# Altium footprint library Flanery.PcbLib: 125 footprints (part 8 of 8)
Each footprint in its own frame and in the unit in brackets; x right, y up, seen from the top. Pads: shape width x height; smd on the part's side, far side on the other; paste and mask are expansions set on the pad; w line width, h text height; cw(c..) or ccw(c..) is an arc to the next point about the centre after c.
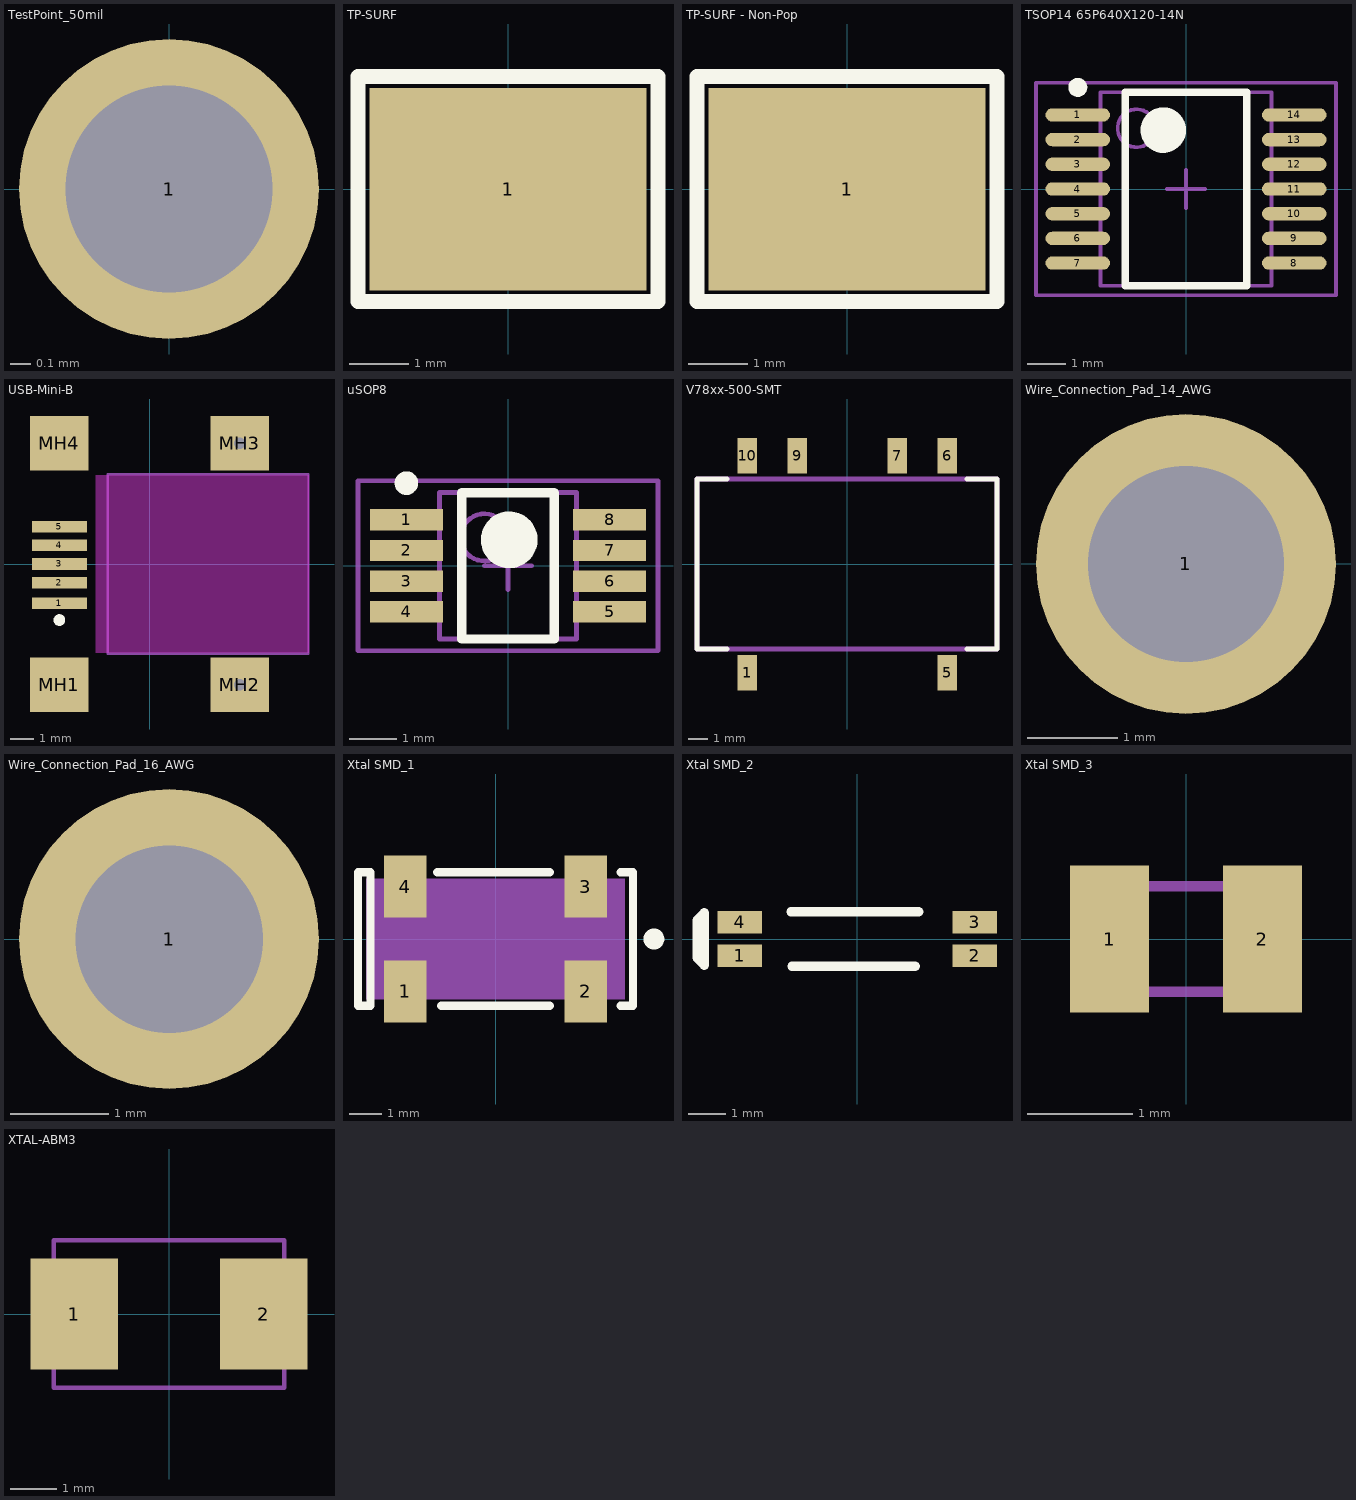
[diagram p7: the footprints below, top view; thin cyan lines are the x and y axes]

## TestPoint_50mil [mil] "Single 40-mil hole for standard 25mil-square header pins"
pads (1):
  round 58 hole 40: 1(0,0)

## TP-SURF [mil]
pads (1):
  rect 185x135 smd: 1(0,0)
Top Overlay:
  lines w10: -100,-75 100,-75 100,75 -100,75 -100,-75

## TP-SURF - Non-Pop [mil] "Not populated (no solder paste)"
pads (1):
  rect 185x135 smd paste-196.85: 1(0,0)
Top Overlay:
  lines w10: -100,-75 100,-75 100,75 -100,75 -100,-75

## TSOP14 65P640X120-14N [mm] "TSOP, 14-Leads, Body 5.1x4.5mm (max), Pitch 0.65mm, IPC Medium Density"
height 1.2
pads (14):
  oval 1.7x0.35 smd: 1(-2.85,1.95) 2(-2.85,1.3) 3(-2.85,0.65) 4(-2.85,0) 5(-2.85,-0.65) 6(-2.85,-1.3) 7(-2.85,-1.95) 8(2.85,-1.95) 9(2.85,-1.3) 10(2.85,-0.65) 11(2.85,0) 12(2.85,0.65) 13(2.85,1.3) 14(2.85,1.95)
Top Overlay:
  circle w0.6: c-0.6,1.55 r0.3
  circle w0.25: c-2.85,2.675 r0.125
  lines w0.2: -1.6,-2.55 1.6,-2.55 1.6,2.55 -1.6,2.55 -1.6,-2.55
Mechanical 13:
  circle w0.1: c-1.3,1.6 r0.5
  lines w0.1: -2.25,-2.55 2.25,-2.55 2.25,2.55 -2.25,2.55 -2.25,-2.55
Mechanical 15:
  lines w0.1: -0.5,0 0.5,0 ; 0,-0.5 0,0.5 ; -3.95,-2.8 3.95,-2.8 3.95,2.8 -3.95,2.8 -3.95,-2.8
3D body: height 1.2, standoff 0.1, extent -2.25,-2.55 2.25,2.55

## USB-Mini-B [mm] "Connector; USB Mini-B, Sinking Type, SM; 5 Position; Right Angle"
height 0.35
pads (9):
  rect 2.35x0.5 smd: 1(-3.861,-1.676) 2(-3.861,-0.8) 3(-3.861,0) 4(-3.861,0.8) 5(-3.861,1.6)
  rect 2.5x2.35 smd: MH1(-3.861,-5.175) MH2(3.863,-5.175) MH3(3.863,5.175) MH4(-3.861,5.175)
via 3.862,5.175 diameter 0.762 hole 0.508
via 3.862,-5.175 diameter 0.762 hole 0.508
Top Layer keep-out:
  rectangle: -2.311,-3.81 6.825,3.81
Top Overlay:
  circle w0.25: c-3.861,-2.4 r0.125
Top Solder:
  rectangle: -5.156,-2.032 -2.565,1.956
Mechanical 13:
  lines w0.1: -1.788,-3.85 6.813,-3.85 6.813,3.85 -1.788,3.85 -1.788,-3.85
3D body: height 3.95, standoff 0, extent -1.798,-3.838 6.801,3.861

## uSOP8 [mm] "Maxim"
height 1.1
pads (8):
  rect 1.55x0.45 smd: 1(-2.15,0.975) 2(-2.15,0.325) 3(-2.15,-0.325) 4(-2.15,-0.975) 5(2.15,-0.975) 6(2.15,-0.325) 7(2.15,0.325) 8(2.15,0.975)
Top Overlay:
  circle w0.6: c0.025,0.55 r0.3
  circle w0.25: c-2.15,1.75 r0.125
  lines w0.2: -0.975,-1.55 0.975,-1.55 0.975,1.55 -0.975,1.55 -0.975,-1.55
Mechanical 13:
  circle w0.1: c-0.5,0.6 r0.5
  lines w0.1: -1.45,-1.55 1.45,-1.55 1.45,1.55 -1.45,1.55 -1.45,-1.55
Mechanical 15:
  lines w0.1: -0.5,0 0.5,0 ; 0,-0.5 0,0.5 ; -3.175,-1.8 3.175,-1.8 3.175,1.8 -3.175,1.8 -3.175,-1.8
3D body: height 1.1, standoff 0.05, extent -1.45,-1.55 1.45,1.55

## V78xx-500-SMT [mil] "Voltage Regulator module"
height 285
pads (6):
  rect 39x71 smd: 1(-200,-217) 5(200,-217) 6(200,217) 7(100,217) 9(-100,217) 10(-200,217)
Top Overlay:
  lines w10: -240,-170 -300,-170 -300,170 -240,170 ; 240,-170 300,-170 300,170 240,170
Mechanical 1:
  lines w10: -300,-170 300,-170 300,170 -300,170 -300,-170
3D body: height 285, standoff 9, extent -305,-175 305,175

## Wire_Connection_Pad_14_AWG [mil] "Through-hole solder pad for a 14 gage, stranded wire."
pads (1):
  round 130 / inner round 105 / far side round 130 hole 85: 1(1800,0)

## Wire_Connection_Pad_16_AWG [mil] "Through-hole solder pad for a 16 gage, stranded wire."
pads (1):
  round 120 / inner round 95 / far side round 120 hole 75: 1(1800,0)

## Xtal SMD_1 [mm] "8Lx4Wx2.5H mm Xtal btwn pins 1,4"
height 2.5
pads (4):
  rect 1.3x1.9 smd paste-0.508 mask+0.102: 1(-2.75,-1.6) 2(2.75,-1.6) 3(2.75,1.6) 4(-2.75,1.6)
Top Overlay:
  circle w0.381: c4.826,0 r0.127
  lines w0.254: -1.778,2.032 1.651,2.032 ; -1.651,-2.032 1.651,-2.032 ; 3.81,-2.032 4.191,-2.032 4.191,2.032 3.81,2.032 ; -4.191,-2.032 -3.81,-2.032 -3.81,2.032 -4.191,2.032 -4.191,-2.032
Mechanical 1:
  rectangle: -3.95,-1.85 3.95,1.85
3D body: height 2.5, standoff 0.03, extent -3.95,-1.85 3.95,1.85
3D body: height 2.55, standoff 1, extent 2.667,-0.381 3.464,0.417

## Xtal SMD_2 [mm] "6.9Lx1.4Wx1.3H mm Xtal btwn pins 1,4"
height 1.3
pads (4):
  rect 1.2x0.6 smd paste-0.508 mask+0.102: 1(-3.15,-0.45) 2(3.15,-0.45) 3(3.15,0.45) 4(-3.15,0.45)
Top Overlay:
  lines w0.254: -1.778,0.732 1.651,0.732 ; -1.751,-0.732 1.551,-0.732 ; -4.1,-0.7 -4.1,-0.7 ; -4.1,-0.7 -4.3,-0.5 -4.3,0.5 -4.1,0.7 ; -4.1,-0.7 -4.1,0.7 ; -4.1,0.7 -4.1,0.7
3D body: height 1.3, standoff 0.1, extent -3.5,-0.7 3.5,0.7

## Xtal SMD_3 [mm] "2x1x0.6mm"
height 0.6
pads (2):
  rect 0.75x1.4 smd: 1(-0.725,0) 2(0.725,0)
Mechanical 13:
  lines w0.1: -1,-0.5 -1,0.5 1,0.5 1,-0.5 -1,-0.5
3D body: height 0.6, standoff 0, extent -0.999,-0.499 0.999,0.499
3D body: height 0.5, standoff 0, extent -1.05,-0.55 1.05,0.55

## XTAL-ABM3 [mm]
pads (2):
  rect 1.9x2.4 smd: 1(-2.05,0) 2(2.05,0)
Mechanical 13:
  lines w0.1: -2.5,-1.6 -2.5,1.6 2.5,1.6 2.5,-1.6 -2.5,-1.6
3D body: height 1.3, standoff 0, extent -2.3,-1.5 2.3,1.5
3D body: height 0.4, standoff 0, extent -2.5,-1.6 2.5,1.6